# EAGLE library part PCI-E16X_EDGE (library pcie)
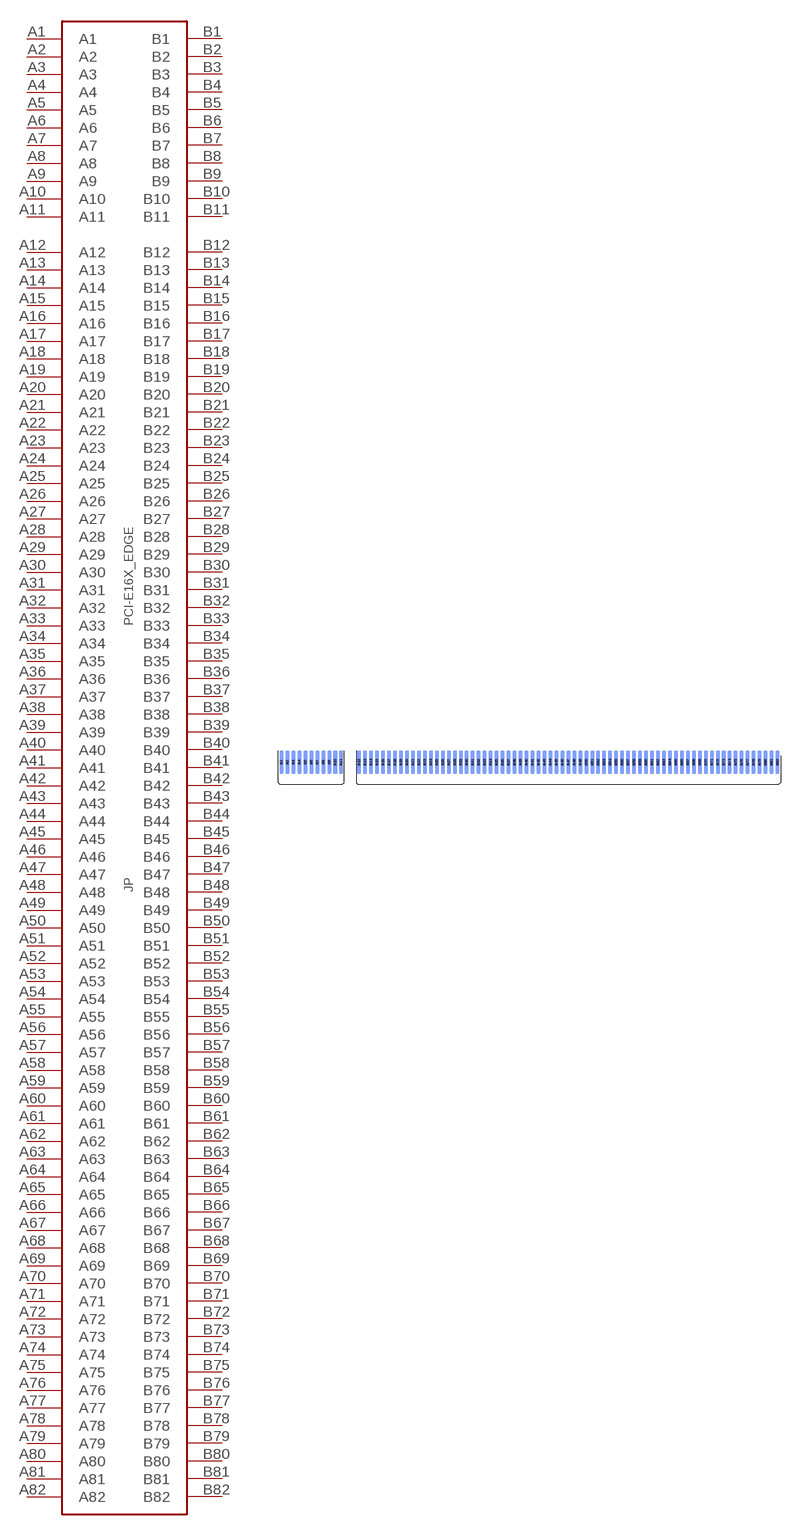
[diagram p1: symbol with the pads of PCI-E_164_EDGE; footprint PCI-E_164_EDGE]

Designator prefix JP

## PCI-E16X_EDGE  [PCI-E_164_EDGE]
A1  A1
A2  A2
A3  A3
A4  A4
A5  A5
A6  A6
A7  A7
A8  A8
A9  A9
A10  A10
A11  A11
A12  A12
A13  A13
A14  A14
A15  A15
A16  A16
A17  A17
A18  A18
A19  A19
A20  A20
A21  A21
A22  A22
A23  A23
A24  A24
A25  A25
A26  A26
A27  A27
A28  A28
A29  A29
A30  A30
A31  A31
A32  A32
A33  A33
A34  A34
A35  A35
A36  A36
A37  A37
A38  A38
A39  A39
A40  A40
A41  A41
A42  A42
A43  A43
A44  A44
A45  A45
A46  A46
A47  A47
A48  A48
A49  A49
A50  A50
A51  A51
A52  A52
A53  A53
A54  A54
A55  A55
A56  A56
A57  A57
A58  A58
A59  A59
A60  A60
A61  A61
A62  A62
A63  A63
A64  A64
A65  A65
A66  A66
A67  A67
A68  A68
A69  A69
A70  A70
A71  A71
A72  A72
A73  A73
A74  A74
A75  A75
A76  A76
A77  A77
A78  A78
A79  A79
A80  A80
A81  A81
A82  A82
B1  B1
B2  B2
B3  B3
B4  B4
B5  B5
B6  B6
B7  B7
B8  B8
B9  B9
B10  B10
B11  B11
B12  B12
B13  B13
B14  B14
B15  B15
B16  B16
B17  B17
B18  B18
B19  B19
B20  B20
B21  B21
B22  B22
B23  B23
B24  B24
B25  B25
B26  B26
B27  B27
B28  B28
B29  B29
B30  B30
B31  B31
B32  B32
B33  B33
B34  B34
B35  B35
B36  B36
B37  B37
B38  B38
B39  B39
B40  B40
B41  B41
B42  B42
B43  B43
B44  B44
B45  B45
B46  B46
B47  B47
B48  B48
B49  B49
B50  B50
B51  B51
B52  B52
B53  B53
B54  B54
B55  B55
B56  B56
B57  B57
B58  B58
B59  B59
B60  B60
B61  B61
B62  B62
B63  B63
B64  B64
B65  B65
B66  B66
B67  B67
B68  B68
B69  B69
B70  B70
B71  B71
B72  B72
B73  B73
B74  B74
B75  B75
B76  B76
B77  B77
B78  B78
B79  B79
B80  B80
B81  B81
B82  B82

## Footprint PCI-E_164_EDGE (pad centres in mm)
smd 0.7 x 4 bottom: A1 -40.35,4.75; A2 -39.35,4.75; A3 -38.35,4.75; A4 -37.35,4.75; A5 -36.35,4.75; A6 -35.35,4.75; A7 -34.35,4.75; A8 -33.35,4.75; A9 -32.35,4.75; A10 -31.35,4.75; A11 -30.35,4.75; A12 -27.35,4.75; A13 -26.35,4.75; A14 -25.35,4.75; A15 -24.35,4.75; A16 -23.35,4.75; A17 -22.35,4.75; A18 -21.35,4.75; A19 -20.35,4.75; A20 -19.35,4.75; A21 -18.35,4.75; A22 -17.35,4.75; A23 -16.35,4.75; A24 -15.35,4.75; A25 -14.35,4.75; A26 -13.35,4.75; A27 -12.35,4.75; A28 -11.35,4.75; A29 -10.35,4.75; A30 -9.35,4.75; A31 -8.35,4.75; A32 -7.35,4.75; A33 -6.35,4.75; A34 -5.35,4.75; A35 -4.35,4.75; A36 -3.35,4.75; A37 -2.35,4.75; A38 -1.35,4.75; A39 -0.35,4.75; A40 0.65,4.75; A41 1.65,4.75; A42 2.65,4.75; A43 3.65,4.75; A44 4.65,4.75; A45 5.65,4.75; A46 6.65,4.75; A47 7.65,4.75; A48 8.65,4.75; A49 9.65,4.75; A50 10.65,4.75; A51 11.65,4.75; A52 12.65,4.75; A53 13.65,4.75; A54 14.65,4.75; A55 15.65,4.75; A56 16.65,4.75; A57 17.65,4.75; A58 18.65,4.75; A59 19.65,4.75; A60 20.65,4.75; A61 21.65,4.75; A62 22.65,4.75; A63 23.65,4.75; A64 24.65,4.75; A65 25.65,4.75; A66 26.65,4.75; A67 27.65,4.75; A68 28.65,4.75; A69 29.65,4.75; A70 30.65,4.75; A71 31.65,4.75; A72 32.65,4.75; A73 33.65,4.75; A74 34.65,4.75; A75 35.65,4.75; A76 36.65,4.75; A77 37.65,4.75; A78 38.65,4.75; A79 39.65,4.75; A80 40.65,4.75; A81 41.65,4.75; A82 42.65,4.75
smd 0.7 x 4: B1 -40.35,4.75; B2 -39.35,4.75; B3 -38.35,4.75; B4 -37.35,4.75; B5 -36.35,4.75; B6 -35.35,4.75; B7 -34.35,4.75; B8 -33.35,4.75; B9 -32.35,4.75; B10 -31.35,4.75; B11 -30.35,4.75; B12 -27.35,4.75; B13 -26.35,4.75; B14 -25.35,4.75; B15 -24.35,4.75; B16 -23.35,4.75; B17 -22.35,4.75; B18 -21.35,4.75; B19 -20.35,4.75; B20 -19.35,4.75; B21 -18.35,4.75; B22 -17.35,4.75; B23 -16.35,4.75; B24 -15.35,4.75; B25 -14.35,4.75; B26 -13.35,4.75; B27 -12.35,4.75; B28 -11.35,4.75; B29 -10.35,4.75; B30 -9.35,4.75; B31 -8.35,4.75; B32 -7.35,4.75; B33 -6.35,4.75; B34 -5.35,4.75; B35 -4.35,4.75; B36 -3.35,4.75; B37 -2.35,4.75; B38 -1.35,4.75; B39 -0.35,4.75; B40 0.65,4.75; B41 1.65,4.75; B42 2.65,4.75; B43 3.65,4.75; B44 4.65,4.75; B45 5.65,4.75; B46 6.65,4.75; B47 7.65,4.75; B48 8.65,4.75; B49 9.65,4.75; B50 10.65,4.75; B51 11.65,4.75; B52 12.65,4.75; B53 13.65,4.75; B54 14.65,4.75; B55 15.65,4.75; B56 16.65,4.75; B57 17.65,4.75; B58 18.65,4.75; B59 19.65,4.75; B60 20.65,4.75; B61 21.65,4.75; B62 22.65,4.75; B63 23.65,4.75; B64 24.65,4.75; B65 25.65,4.75; B66 26.65,4.75; B67 27.65,4.75; B68 28.65,4.75; B69 29.65,4.75; B70 30.65,4.75; B71 31.65,4.75; B72 32.65,4.75; B73 33.65,4.75; B74 34.65,4.75; B75 35.65,4.75; B76 36.65,4.75; B77 37.65,4.75; B78 38.65,4.75; B79 39.65,4.75; B80 40.65,4.75; B81 41.65,4.75; B82 42.65,4.75